# Altium integrated library mini-360.IntLib: 1 symbol
Pins are listed as number, name and electrical type; pins without a type are passive.

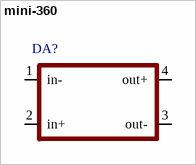
[diagram p0: symbol mini-360]

## mini-360
designator DA?
footprint mini-360
pins: 1 in-, 2 in+, 3 out-, 4 out+